# Altium footprint library A6H-6101.PcbLib: 2 footprints
Each footprint in its own frame and in the unit in brackets; x right, y up, seen from the top. Pads: shape width x height; smd on the part's side, far side on the other; paste and mask are expansions set on the pad; w line width, h text height; cw(c..) or ccw(c..) is an arc to the next point about the centre after c.
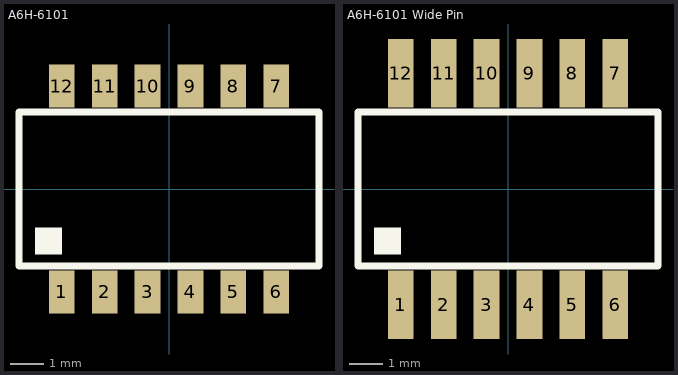
[diagram p0: the footprints below, top view; thin cyan lines are the x and y axes]

## A6H-6101 [mil] "OMRON A6H-6101 SPST Half Pitch (1.27mm) DIP Switch"
height 90
pads (12):
  rect 30x50 smd: 1(-125,-120) 2(-75,-120) 3(-25,-120) 4(25,-120) 5(75,-120) 6(125,-120) 7(125,120) 8(75,120) 9(25,120) 10(-25,120) 11(-75,120) 12(-125,120)
Top Overlay:
  rectangle: -156.5,-76.5 -125,-45
  lines w8: -175,-90 -175,90 175,90 175,-90 -175,-90
3D body: height 60, standoff 10, extent -175,-90 175,90

## A6H-6101 Wide Pin [mil] "OMRON A6H-6101 (Fits C&K TDA06H0SB1) SPST Half Pitch (1.27mm) DIP Switch"
height 90
pads (12):
  rect 30x80 smd: 1(-125,-135) 2(-75,-135) 3(-25,-135) 4(25,-135) 5(75,-135) 6(125,-135) 7(125,135) 8(75,135) 9(25,135) 10(-25,135) 11(-75,135) 12(-125,135)
Top Overlay:
  rectangle: -156.5,-76.5 -125,-45
  lines w8: -175,-90 -175,90 175,90 175,-90 -175,-90
3D body: height 60, standoff 10, extent -175,-90 175,90